# Altium footprint library FSA2275AUMX.PcbLib: 1 footprints
Each footprint in its own frame and in the unit in brackets; x right, y up, seen from the top. Pads: shape width x height; smd on the part's side, far side on the other; paste and mask are expansions set on the pad; w line width, h text height; cw(c..) or ccw(c..) is an arc to the next point about the centre after c.
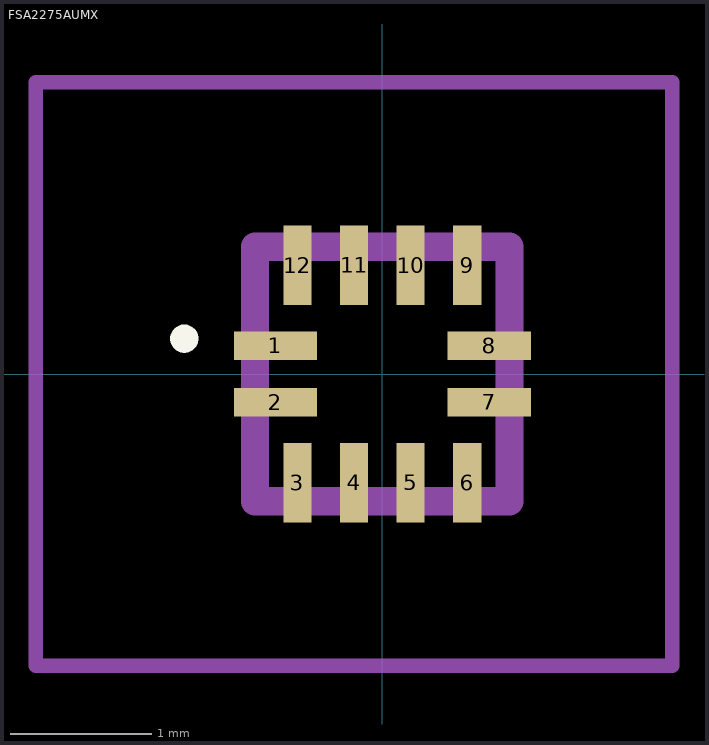
[diagram p0: the footprint, top view; thin cyan lines are the x and y axes]

## FSA2275AUMX [mm]
pads (12):
  rect 0.588x0.2 smd: 1(-0.756,0.2) 2(-0.756,-0.2) 7(0.756,-0.2) 8(0.756,0.2)
  rect 0.2x0.563 smd: 3(-0.6,-0.769) 4(-0.2,-0.769) 5(0.2,-0.769) 6(0.6,-0.769) 9(0.6,0.769) 10(0.2,0.769) 11(-0.2,0.769) 12(-0.6,0.769)
Top Overlay:
  lines w0.1: -1.4,0.2 -1.4,0.2 ; -1.4,0.2 ccw(c-1.4,0.25) -1.4,0.3 ; -1.4,0.2 cw(c-1.4,0.25) -1.4,0.3 ; -1.4,0.3 -1.4,0.3
Mechanical 15:
  lines w0.2: -0.9,-0.9 0.9,-0.9 0.9,0.9 -0.9,0.9 -0.9,-0.9
Mechanical 20:
  lines w0.1: -2.45,-2.063 2.05,-2.063 2.05,2.063 -2.45,2.063 -2.45,-2.063